# Altium footprint library HEADER_F_2x16_2.54_RA.PcbLib: 1 footprints
Each footprint in its own frame and in the unit in brackets; x right, y up, seen from the top. Pads: shape width x height; smd on the part's side, far side on the other; paste and mask are expansions set on the pad; w line width, h text height; cw(c..) or ccw(c..) is an arc to the next point about the centre after c.
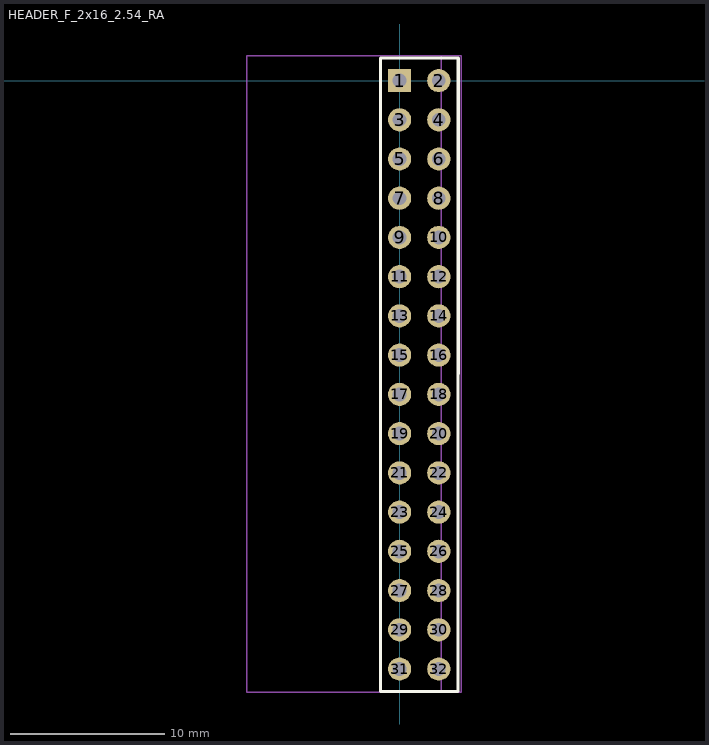
[diagram p0: the footprint, top view; thin cyan lines are the x and y axes]

## HEADER_F_2x16_2.54_RA [mm] "Connector; Header; 38 Position; Male"
pads (32):
  rect 1.5x1.5 hole 0.9: 1(0,0)
  round 1.5 hole 0.9: 2(2.54,0) 3(0,-2.54) 4(2.54,-2.54) 5(0,-5.08) 6(2.54,-5.08) 7(0,-7.62) 8(2.54,-7.62) 9(0,-10.16) 10(2.54,-10.16) 11(0,-12.7) 12(2.54,-12.7) 13(0,-15.24) 14(2.54,-15.24) 15(0,-17.78) 16(2.54,-17.78) 17(0,-20.32) 18(2.54,-20.32) 19(0,-22.86) 20(2.54,-22.86) 21(0,-25.4) 22(2.54,-25.4) 23(0,-27.94) 24(2.54,-27.94) 25(0,-30.48) 26(2.54,-30.48) 27(0,-33.02) 28(2.54,-33.02) 29(0,-35.56) 30(2.54,-35.56) 31(0,-38.1) 32(2.54,-38.1)
Top Overlay:
  lines w0.2: 3.77,1.45 -1.23,1.45 -1.23,-39.55 3.77,-39.55 3.8,1.45
Top Assembly:
  lines w0.1: -9.9,-39.6 2.7,-39.6 2.7,1.6 -9.9,1.6 -9.9,-39.6
Top Courtyard:
  lines w0.1: -9.9,-39.6 -9.9,1.6 4,1.6 4,-39.6 -9.9,-39.6
3D body "Downloads_STEP_613032243121 (rev1).stp": height 5.04, standoff -3.26, extent -9.856,-39.574 2.744,1.566